# EAGLE library part S12B-PH-SM4-TB (library untitled)
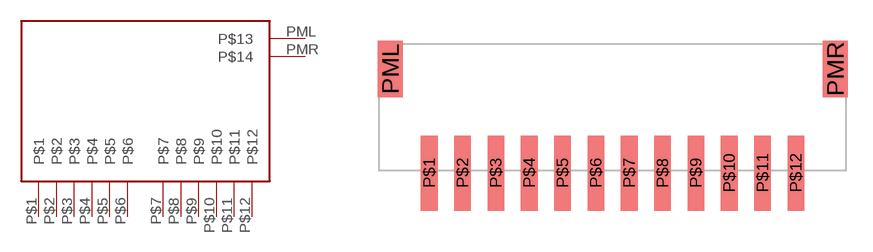
[diagram p28: symbol with the pads of S12B-PH-SM4-TB; footprint S12B-PH-SM4-TB]

Designator prefix -

## S12B-PH-SM4-TB  [S12B-PH-SM4-TB]
P$1  P$1
P$2  P$2
P$3  P$3
P$4  P$4
P$5  P$5
P$6  P$6
P$7  P$7
P$8  P$8
P$9  P$9
P$10  P$10
P$11  P$11
P$12  P$12
PML  P$13
PMR  P$14

## Footprint S12B-PH-SM4-TB (pad centres in mm)
smd 1 x 4.5: P$1 -11,-7.75; P$2 -9,-7.75; P$3 -7,-7.75; P$4 -5,-7.75; P$5 -3,-7.75; P$6 -1,-7.75; P$7 1,-7.75; P$8 3,-7.75; P$9 5,-7.75; P$10 7,-7.75; P$11 9,-7.75; P$12 11,-7.75
smd 1.5 x 3.4: PML -13.35,-1.5; PMR 13.35,-1.5